# Altium schematic symbol library dev-boards.SchLib: 1 symbol
Pins are listed as number, name and electrical type; pins without a type are passive.

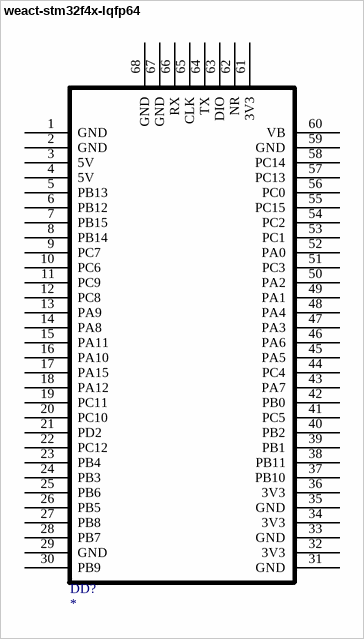
[diagram p0: symbol weact-stm32f4x-lqfp64]

## weact-stm32f4x-lqfp64
designator DD?
ComponentLink1Description: rep; ComponentLink1URL: https://github.com/WeActStudio/WeActStudio.STM32F4_64Pin_CoreBoard/tree/master
footprint weact-stm32f4x-lqfp64 (WeActStudio.STM32F4_64Pin_CoreBoard / STM32F405RGT6 / STM32F412RET6 / STM32F446RET6)
pins: 1 GND (power), 2 GND (power), 3 5V (power), 4 5V (power), 5 PB13, 6 PB12, 7 PB15, 8 PB14, 9 PC7, 10 PC6, 11 PC9, 12 PC8, 13 PA9, 14 PA8, 15 PA11, 16 PA10, 17 PA15, 18 PA12, 19 PC11, 20 PC10, 21 PD2, 22 PC12, 23 PB4, 24 PB3, 25 PB6, 26 PB5, 27 PB8, 28 PB7, 29 GND (power), 30 PB9, 31 GND (power), 32 3V3 (power), 33 GND (power), 34 3V3 (power), 35 GND (power), 36 3V3 (power), 37 PB10, 38 PB11, 39 PB1, 40 PB2, 41 PC5, 42 PB0, 43 PA7, 44 PC4, 45 PA5, 46 PA6, 47 PA3, 48 PA4, 49 PA1, 50 PA2, 51 PC3, 52 PA0, 53 PC1, 54 PC2, 55 PC15, 56 PC0, 57 PC13, 58 PC14, 59 GND (power), 60 VB, 61 3V3 (power), 62 NR, 63 DIO, 64 TX, 65 CLK, 66 RX, 67 GND (power), 68 GND (power)